# Altium schematic symbol library CON5_2.Schlib: 1 symbol
Pins are listed as number, name and electrical type; pins without a type are passive.

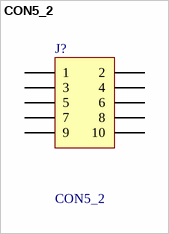
[diagram p0: symbol CON5_2]

## CON5_2
designator J?
pins: 1, 2, 3, 4, 5, 6, 7, 8, 9, 10